# Altium schematic symbol library WR-WTB_2.00mm.SchLib: 70 symbols (part 2 of 2)
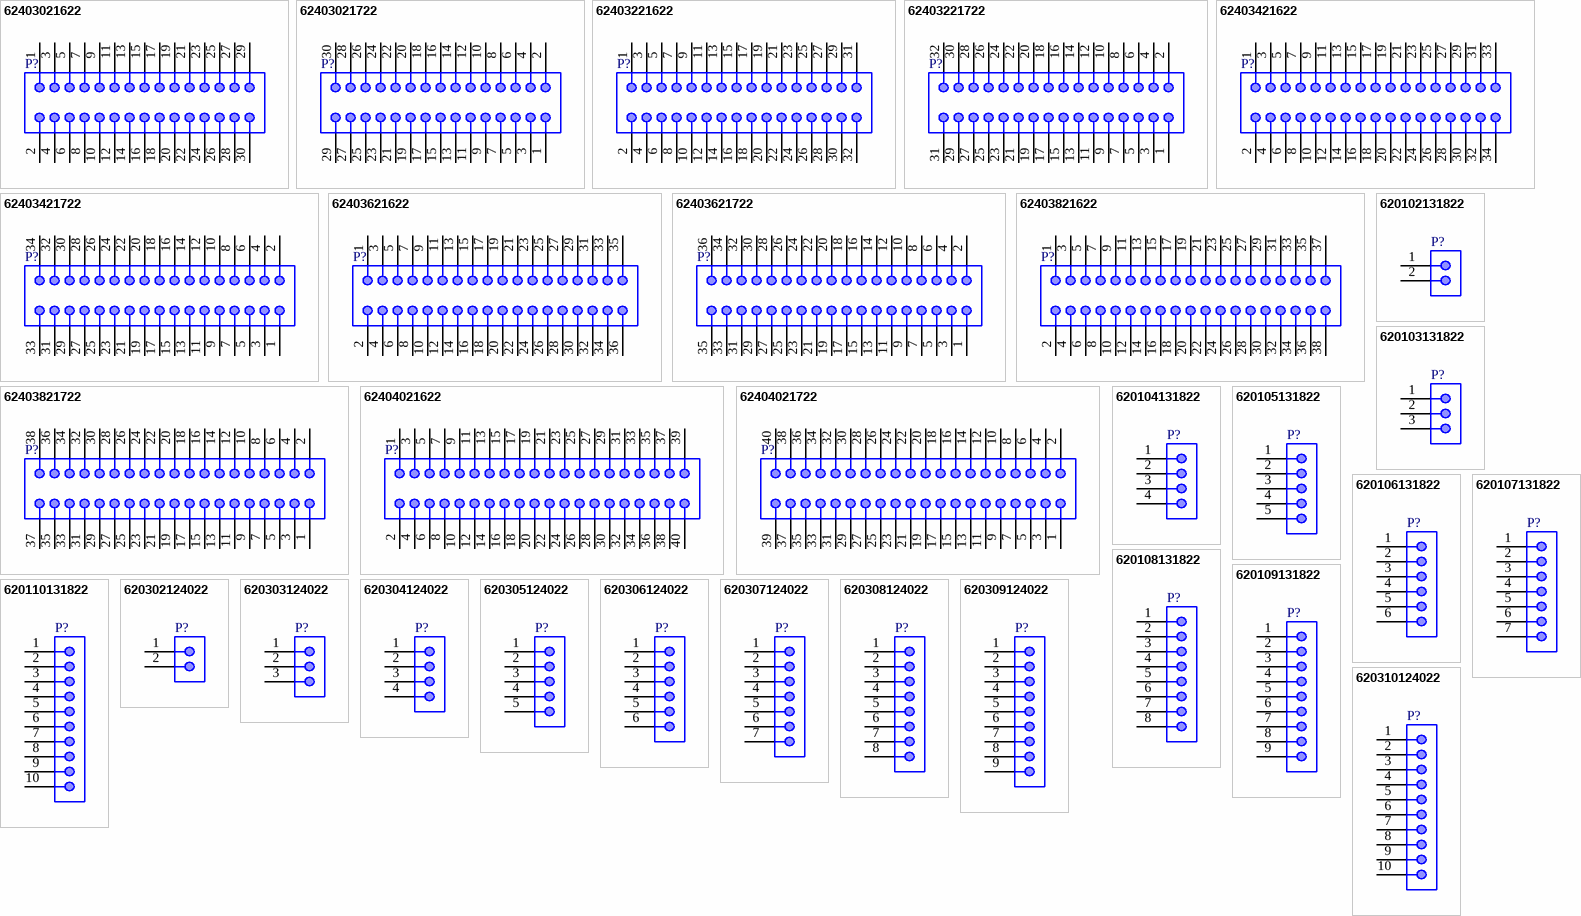
[diagram p2: symbols 62403021622 to 620310124022]

## 620310124022
designator P?
WR-WTB SMT Male Vertical Shrouded Header, pitch 2mm, 10p; Part Number: 620310124022; Pin Number: 10; Contact Resistance: 20mOhm; Rated Current: 2A; Withstanding Voltage: 800VAC; Working Voltage: 100VAC; ComponentLink1Description: Manufacturer; ComponentLink1URL: http://www.we-online.de; ComponentLink2Description: Datasheet; ComponentLink2URL: https://www.we-online.com/catalog/datasheet/620310124022.pdf; Pitch: 2mm; Published Date: January 2020; Publisher: Wurth Elektronik; Mounting Technology: SMT; Packaging: Tape and Reel; Operating Temperature: -25 to +85degC; Gender: Male; Type: Vertical
footprint 620310124022
pins: 1, 2, 3, 4, 5, 6, 7, 8, 9, 10